# Altium schematic symbol library FDC637BNZCT-ND.Schlib: 1 symbol
Pins are listed as number, name and electrical type; pins without a type are passive.

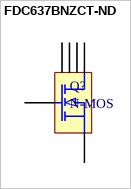
[diagram p0: symbol FDC637BNZCT-ND]

## FDC637BNZCT-ND
designator Q?, comment N-MOS
20V 6.2A, N-MOS, low gate on voltage; Supplier: Digi-Key; Supplier Part Number: FDC637BNZCT-ND
footprint SOT95P280X145-6N (SOT + Pitch P + Nominal Lead Length X Height - #Pins)
pins: 1 D, 2 D, 3 G, 4 S, 5 D, 6 D